# EAGLE library part AC4790-200M (library FSAE Electric)
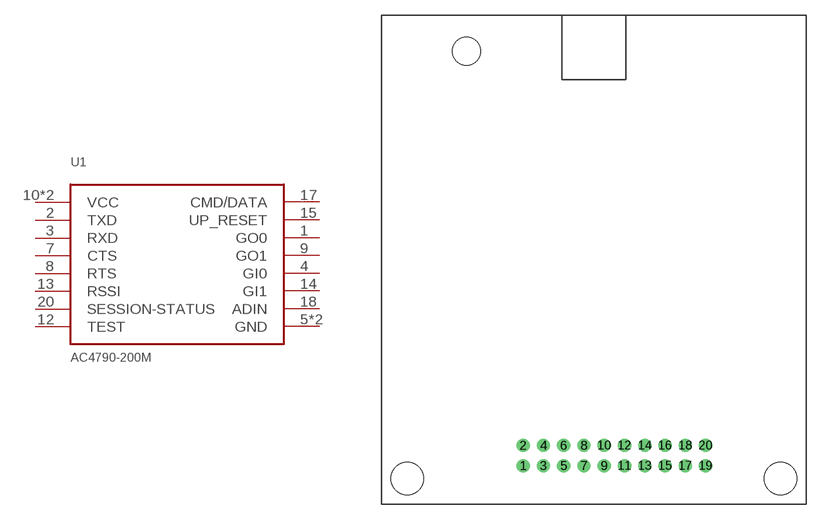
[diagram p37: symbol with the pads of AC4790-200M; footprint AC4790-200M]

Designator prefix U1

## AC4790-200M (PARTNO: AC4790-200M)  [AC4790-200M]
1  GO0
2  TXD
3  RXD
4  GI0
5  GND
7  CTS
8  RTS
9  GO1
10  VCC
11  VCC
12  TEST
13  RSSI
14  GI1
15  UP_RESET
16  GND
17  CMD/DATA
18  ADIN
20  SESSION-STATUS

## Footprint AC4790-200M (pad centres in mm)
drill 0.8: 1 -27.939,3.809; 2 -27.939,5.809; 3 -25.939,3.809; 4 -25.939,5.809; 5 -23.939,3.809; 6 -23.939,5.809; 7 -21.939,3.809; 8 -21.939,5.809; 9 -19.939,3.809; 10 -19.939,5.809; 11 -17.939,3.809; 12 -17.939,5.809; 13 -15.939,3.809; 14 -15.939,5.809; 15 -13.939,3.809; 16 -13.939,5.809; 17 -11.939,3.809; 18 -11.939,5.809; 19 -9.939,3.809; 20 -9.939,5.809
hole 3.2 at -2.54,2.54
hole 3.2 at -39.37,2.54
hole 2.8 at -33.528,44.704